# EAGLE library part TPS53315RGFR (library sw-regulator-tps53315)
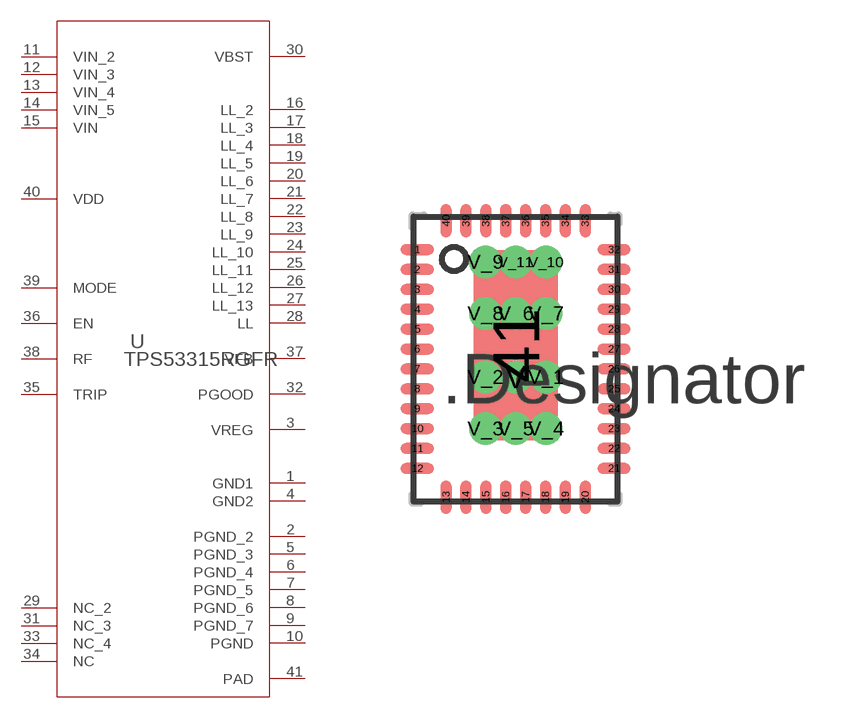
[diagram p0: symbol with the pads of RGF0040B; footprint RGF0040B]

Designator prefix U

## TPS53315RGFR (ALTERNATEPARTNUMBER: TPS53315RGFT; COMPTYPE: IC; MANUFACTURER: Texas Instruments; MOUNTTYPE: SMT; PACKAGEREFERENCE: RGF0040B; PARTNUMBER: TPS53315RGFR; PIN_COUNT: 41; REFDES: RefDes; ROHS: Y; TYPE: TYPE; VALUE: Value)  [RGF0040B]
1  GND1  pwr
2  PGND_2  pwr
3  VREG  pwr
4  GND2  pwr
5  PGND_3  pwr
6  PGND_4  pwr
7  PGND_5  pwr
8  PGND_6  pwr
9  PGND_7  pwr
10  PGND  pwr
11  VIN_2  pwr
12  VIN_3  pwr
13  VIN_4  pwr
14  VIN_5  pwr
15  VIN  pwr
16  LL_2  pwr
17  LL_3  pwr
18  LL_4  pwr
19  LL_5  pwr
20  LL_6  pwr
21  LL_7  pwr
22  LL_8  pwr
23  LL_9  pwr
24  LL_10  pwr
25  LL_11  pwr
26  LL_12  pwr
27  LL_13  pwr
28  LL  pwr
29  NC_2  pas
30  VBST  pwr
31  NC_3  pas
32  PGOOD  oc
33  NC_4  pas
34  NC  pas
35  TRIP  in
36  EN  in
37  VFB  in
38  RF  in
39  MODE  in
40  VDD  pwr
41  PAD  pwr

## Footprint RGF0040B (pad centres in mm)
smd 0.838 x 0.279: 1 -2.475,2.75; 2 -2.475,2.25; 3 -2.475,1.75; 4 -2.475,1.25; 5 -2.475,0.75; 6 -2.475,0.25; 7 -2.475,-0.25; 8 -2.475,-0.75; 9 -2.475,-1.25; 10 -2.475,-1.75; 11 -2.475,-2.25; 12 -2.475,-2.75; 21 2.475,-2.75; 22 2.475,-2.25; 23 2.475,-1.75; 24 2.475,-1.25; 25 2.475,-0.75; 26 2.475,-0.25; 27 2.475,0.25; 28 2.475,0.75; 29 2.475,1.25; 30 2.475,1.75; 31 2.475,2.25; 32 2.475,2.75
smd 0.279 x 0.838: 13 -1.75,-3.475; 14 -1.25,-3.475; 15 -0.75,-3.475; 16 -0.25,-3.475; 17 0.25,-3.475; 18 0.75,-3.475; 19 1.25,-3.475; 20 1.75,-3.475; 33 1.75,3.475; 34 1.25,3.475; 35 0.75,3.475; 36 0.25,3.475; 37 -0.25,3.475; 38 -0.75,3.475; 39 -1.25,3.475; 40 -1.75,3.475
smd 2.108 x 4.775: 41 0,0.34
drill 0.305: V 0,-0.457; V_1 0.762,-0.457; V_2 -0.762,-0.457; V_3 -0.762,-1.753; V_4 0.762,-1.753; V_5 0,-1.753; V_6 0,1.143; V_7 0.762,1.143; V_8 -0.762,1.143; V_9 -0.762,2.438; V_10 0.762,2.438; V_11 0,2.438